# Altium schematic symbol library OUPIN_SD_CONNECTOR.Schlib: 1 symbol
Pins are listed as number, name and electrical type; pins without a type are passive.

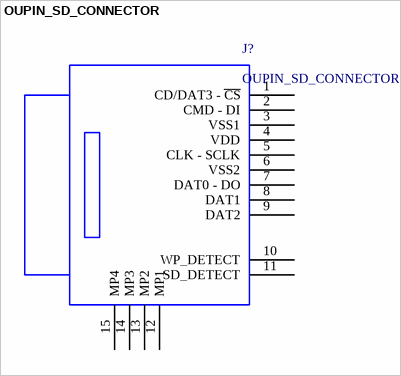
[diagram p0: symbol OUPIN_SD_CONNECTOR]

## OUPIN_SD_CONNECTOR
designator J?
pins: 1 CD/DAT3 - ~{CS}, 2 CMD - DI, 3 VSS1, 4 VDD, 5 CLK - SCLK, 6 VSS2, 7 DAT0 - DO, 8 DAT1, 9 DAT2, 10 WP_DETECT, 11 SD_DETECT, 12 MP1, 13 MP2, 14 MP3, 15 MP4